# EAGLE library part USBLC6-2SC6 (library walkgeek-eagle)
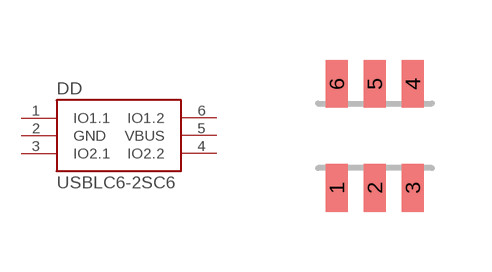
[diagram p2: symbol with the pads of SOT23-6L; footprint SOT23-6L]

Designator prefix DD

## USBLC6-2SC6  [SOT23-6L]
1  IO1.1  pas
2  GND  pas
3  IO2.1  pas
4  IO2.2  pas
5  VBUS  pas
6  IO1.2  pas

## Footprint SOT23-6L (pad centres in mm)
Small Outline Transistor
smd 0.55 x 1.2: 1 -0.95,-1.3; 2 0,-1.3; 3 0.95,-1.3; 4 0.95,1.3; 5 0,1.3; 6 -0.95,1.3